# Altium footprint library MIC29302WU.PcbLib: 1 footprints
Each footprint in its own frame and in the unit in brackets; x right, y up, seen from the top. Pads: shape width x height; smd on the part's side, far side on the other; paste and mask are expansions set on the pad; w line width, h text height; cw(c..) or ccw(c..) is an arc to the next point about the centre after c.
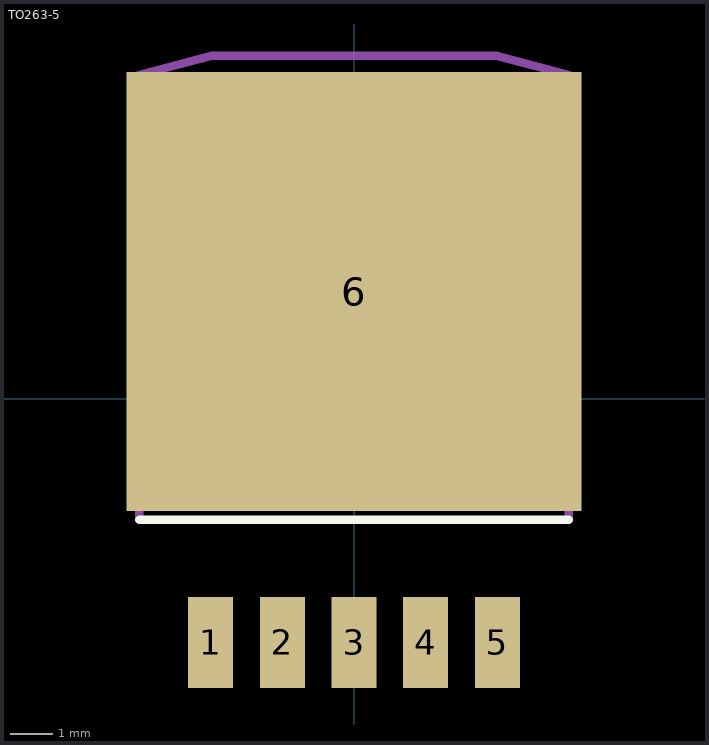
[diagram p0: the footprint, top view; thin cyan lines are the x and y axes]

## TO263-5 [mil]
pads (6):
  rect 42x85 smd paste-1000 mask-1000: 1(-134,-228) 2(-67,-228) 3(0,-228) 4(67,-228) 5(134,-228)
  rect 425.2x409.84 smd paste-1000 mask-1000: 6(0,100)
Top Overlay:
  lines w8: -200.55,-113.39 200.55,-113.39
Top Paste:
  region: 113,-270.5 155,-270.5 155,-185.5 113,-185.5
  region: 46,-270.5 88,-270.5 88,-185.5 46,-185.5
  region: -21,-270.5 21,-270.5 21,-185.5 -21,-185.5
  region: -88,-270.5 -46,-270.5 -46,-185.5 -88,-185.5
  region: -155,-270.5 -113,-270.5 -113,-185.5 -155,-185.5
  region: -212.6,-104.92 212.6,-104.92 212.6,304.92 -212.6,304.92
Top Solder:
  region: 109.06,-274.44 158.94,-274.44 158.94,-181.56 109.06,-181.56
  region: 42.06,-274.44 91.94,-274.44 91.94,-181.56 42.06,-181.56
  region: -24.94,-274.44 24.94,-274.44 24.94,-181.56 -24.94,-181.56
  region: -91.94,-274.44 -42.06,-274.44 -42.06,-181.56 -91.94,-181.56
  region: -158.94,-274.44 -109.06,-274.44 -109.06,-181.56 -158.94,-181.56
  region: -216.54,-108.86 216.54,-108.86 216.54,308.86 -216.54,308.86
Mechanical 1:
  lines w8: -200.55,-113.39 -200.55,282.09 200.55,282.09 200.55,-113.39 ; -200.98,286.1 200.98,286.1 200.98,302.28 132.99,320.28 -132.99,320.28 -200.98,302.28 -200.98,286.1